# Altium footprint library MotorInterface.PcbLib: 1 footprints
Each footprint in its own frame and in the unit in brackets; x right, y up, seen from the top. Pads: shape width x height; smd on the part's side, far side on the other; paste and mask are expansions set on the pad; w line width, h text height; cw(c..) or ccw(c..) is an arc to the next point about the centre after c.
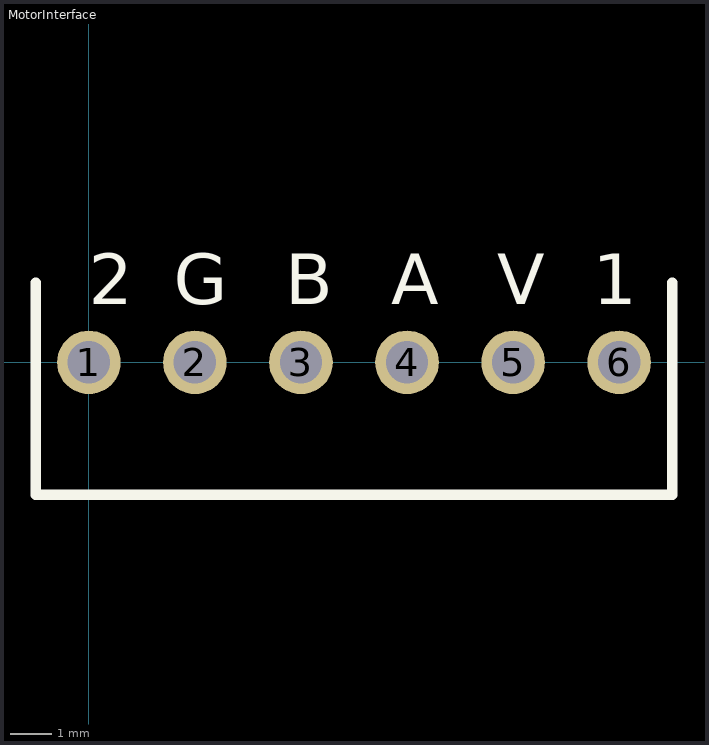
[diagram p0: the footprint, top view; thin cyan lines are the x and y axes]

## MotorInterface [mil]
pads (6):
  round 60 hole 40: 1(0,0) 2(100,0) 3(200,0) 4(300,0) 5(400,0) 6(500,0)
Top Overlay:
  lines w10: -50,75 -50,-125 550,-125 550,75
  text "2" at 0,55 h48
  text "G" at 80,55 h48
  text "B" at 185,55 h48
  text "A" at 285,55 h48
  text "V" at 385,55 h48
  text "1" at 475,55 h48